# Altium footprint library stm32.PcbLib: 10 footprints
Each footprint in its own frame and in the unit in brackets; x right, y up, seen from the top. Pads: shape width x height; smd on the part's side, far side on the other; paste and mask are expansions set on the pad; w line width, h text height; cw(c..) or ccw(c..) is an arc to the next point about the centre after c.
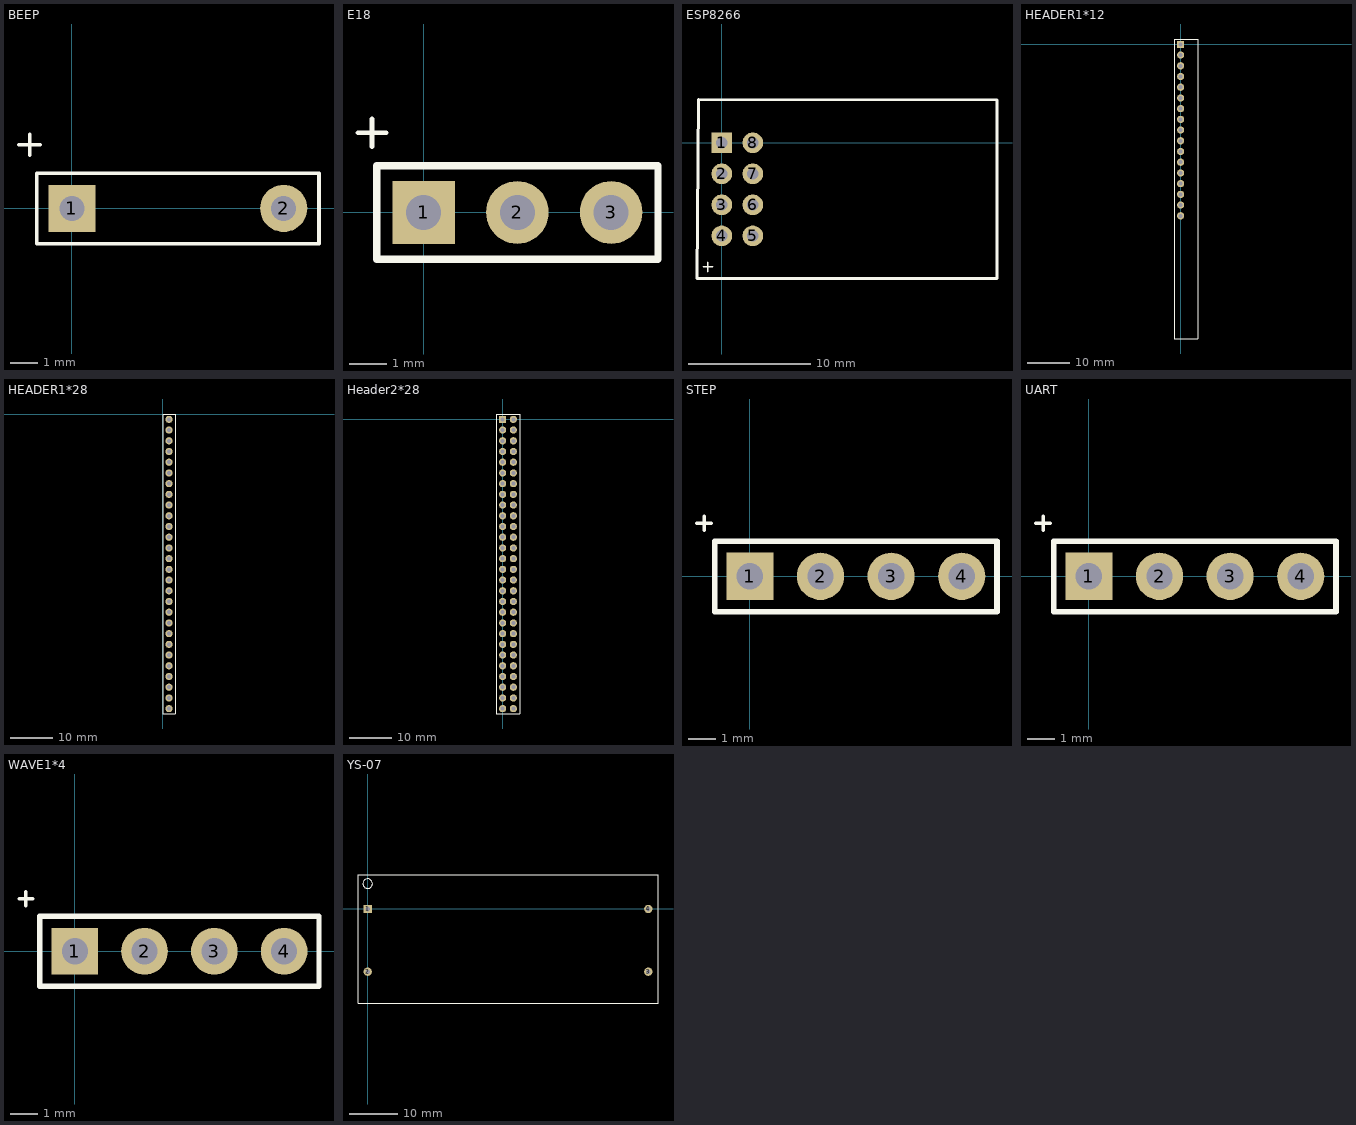
[diagram p0: the footprints below, top view; thin cyan lines are the x and y axes]

## BEEP [mm]
pads (2):
  rect 1.7x1.7 hole 0.9: 1(0,0)
  round 1.7 hole 0.9: 2(7.62,0)
Top Overlay:
  lines w0.127: -1.905,2.286 -1.143,2.286 ; -1.524,1.905 -1.524,2.667 ; -1.27,-1.27 -1.27,1.27 8.89,1.27 8.89,-1.27 -1.27,-1.27

## E18 [mm]
pads (3):
  rect 1.7x1.7 hole 0.95: 1(0,0)
  round 1.7 hole 0.95: 2(2.54,0) 3(5.08,0)
Top Overlay:
  lines w0.127: -1.778,2.159 -1.016,2.159 ; -1.397,1.778 -1.397,2.54
  lines w0.2: -1.27,-1.27 6.35,-1.27 6.35,1.27 -1.27,1.27 -1.27,-1.27

## ESP8266 [mm]
pads (8):
  rect 1.7x1.7 hole 0.95: 1(0,0)
  round 1.7 hole 0.95: 2(0,-2.54) 3(0,-5.08) 4(0,-7.62) 5(2.54,-7.62) 6(2.54,-5.08) 7(2.54,-2.54) 8(2.54,0)
Top Overlay:
  lines w0.127: -1.524,-10.16 -0.762,-10.16 ; -1.143,-10.541 -1.143,-9.779
  lines w0.254: -2.03,-11.12 -1.905,3.556 22.54,3.5 22.54,-11.12 -2,-11.12

## HEADER1*12 [mm]
pads (17):
  rect 1.7x1.7 hole 0.95: 1(0,0)
  round 1.7 hole 0.95: 2(0,-2.54) 3(0,-5.08) 4(0,-7.62) 5(0,-10.16) 6(0,-12.7) 7(0,-15.24) 8(0,-17.78) 9(0,-20.32) 10(0,-22.86) 11(0,-25.4) 12(0,-27.94) 13(0,-30.48) 14(0,-33.02) 15(0,-35.56) 16(0,-38.1) 17(0,-40.64)
Top Overlay:
  lines w0.254: -1.54,-69.85 -1.54,1.27 4.08,1.27 4.08,-69.85 ; -1.524,-69.85 4.064,-69.85

## HEADER1*28 [mm]
pads (28):
  round 1.7 hole 0.95: 29(1.54,-69.85) 30(1.54,-67.31) 31(1.54,-64.77) 32(1.54,-62.23) 33(1.54,-59.69) 34(1.54,-57.15) 35(1.54,-54.61) 36(1.54,-52.07) 37(1.54,-49.53) 38(1.54,-46.99) 39(1.54,-44.45) 40(1.54,-41.91) 41(1.54,-39.37) 42(1.54,-36.83) 43(1.54,-34.29) 44(1.54,-31.75) 45(1.54,-29.21) 46(1.54,-26.67) 47(1.54,-24.13) 48(1.54,-21.59) 49(1.54,-19.05) 50(1.54,-16.51) 51(1.54,-13.97) 52(1.54,-11.43) 53(1.54,-8.89) 54(1.54,-6.35) 55(1.54,-3.81) 56(1.54,-1.27)
Top Overlay:
  lines w0.254: 0,-71.12 0,0 3.08,0 3.08,-71.12 0.016,-71.12

## Header2*28 [mm]
pads (56):
  rect 1.7x1.7 hole 0.95: 1(0,0)
  round 1.7 hole 0.95: 2(0,-2.54) 3(0,-5.08) 4(0,-7.62) 5(0,-10.16) 6(0,-12.7) 7(0,-15.24) 8(0,-17.78) 9(0,-20.32) 10(0,-22.86) 11(0,-25.4) 12(0,-27.94) 13(0,-30.48) 14(0,-33.02) 15(0,-35.56) 16(0,-38.1) 17(0,-40.64) 18(0,-43.18) 19(0,-45.72) 20(0,-48.26) 21(0,-50.8) 22(0,-53.34) 23(0,-55.88) 24(0,-58.42) 25(0,-60.96) 26(0,-63.5) 27(0,-66.04) 28(0,-68.58) 29(2.54,-68.58) 30(2.54,-66.04) 31(2.54,-63.5) 32(2.54,-60.96) 33(2.54,-58.42) 34(2.54,-55.88) 35(2.54,-53.34) 36(2.54,-50.8) 37(2.54,-48.26) 38(2.54,-45.72) 39(2.54,-43.18) 40(2.54,-40.64) 41(2.54,-38.1) 42(2.54,-35.56) 43(2.54,-33.02) 44(2.54,-30.48) 45(2.54,-27.94) 46(2.54,-25.4) 47(2.54,-22.86) 48(2.54,-20.32) 49(2.54,-17.78) 50(2.54,-15.24) 51(2.54,-12.7) 52(2.54,-10.16) 53(2.54,-7.62) 54(2.54,-5.08) 55(2.54,-2.54) 56(2.54,0)
Top Overlay:
  lines w0.254: -1.54,-69.85 -1.54,1.27 4.08,1.27 4.08,-69.85 ; -1.524,-69.85 4.064,-69.85

## STEP [mm]
pads (4):
  rect 1.7x1.7 hole 0.95: 1(0,0)
  round 1.7 hole 0.95: 2(2.54,0) 3(5.08,0) 4(7.62,0)
Top Overlay:
  lines w0.127: -1.905,1.905 -1.397,1.905 ; -1.651,1.651 -1.651,2.159
  lines w0.2: -1.27,-1.27 -1.27,1.27 8.89,1.27 8.89,-1.27 -1.27,-1.27

## UART [mm]
pads (4):
  rect 1.7x1.7 hole 0.95: 1(0,0)
  round 1.7 hole 0.95: 2(2.54,0) 3(5.08,0) 4(7.62,0)
Top Overlay:
  lines w0.127: -1.905,1.905 -1.397,1.905 ; -1.651,1.651 -1.651,2.159
  lines w0.2: -1.27,-1.27 8.89,-1.27 8.89,1.27 -1.27,1.27 -1.27,-1.27

## WAVE1*4 [mm]
pads (4):
  rect 1.7x1.7 hole 0.95: 1(0,0)
  round 1.7 hole 0.95: 2(2.54,0) 3(5.08,0) 4(7.62,0)
Top Overlay:
  lines w0.127: -2.032,1.905 -1.524,1.905 ; -1.778,1.651 -1.778,2.159
  lines w0.2: -1.27,-1.27 8.89,-1.27 8.89,1.27 -1.27,1.27 -1.27,-1.27

## YS-07 [mm]
pads (4):
  rect 1.7x1.7 hole 0.95: 1(0,0)
  round 1.7 hole 0.95: 2(0,-12.9) 3(57.7,-12.9) 4(57.7,0)
Top Overlay:
  circle w0.254: c0,5.207 r0.984
  lines w0.2: -2,-19.35 -2,7 59.69,7 ; 59.7,-19.35 59.7,7
  lines w0.254: -2,-19.35 59.7,-19.35